# Altium footprint library BasicSAMD21.PcbLib: 20 footprints (part 1 of 2)
Each footprint in its own frame and in the unit in brackets; x right, y up, seen from the top. Pads: shape width x height; smd on the part's side, far side on the other; paste and mask are expansions set on the pad; w line width, h text height; cw(c..) or ccw(c..) is an arc to the next point about the centre after c.
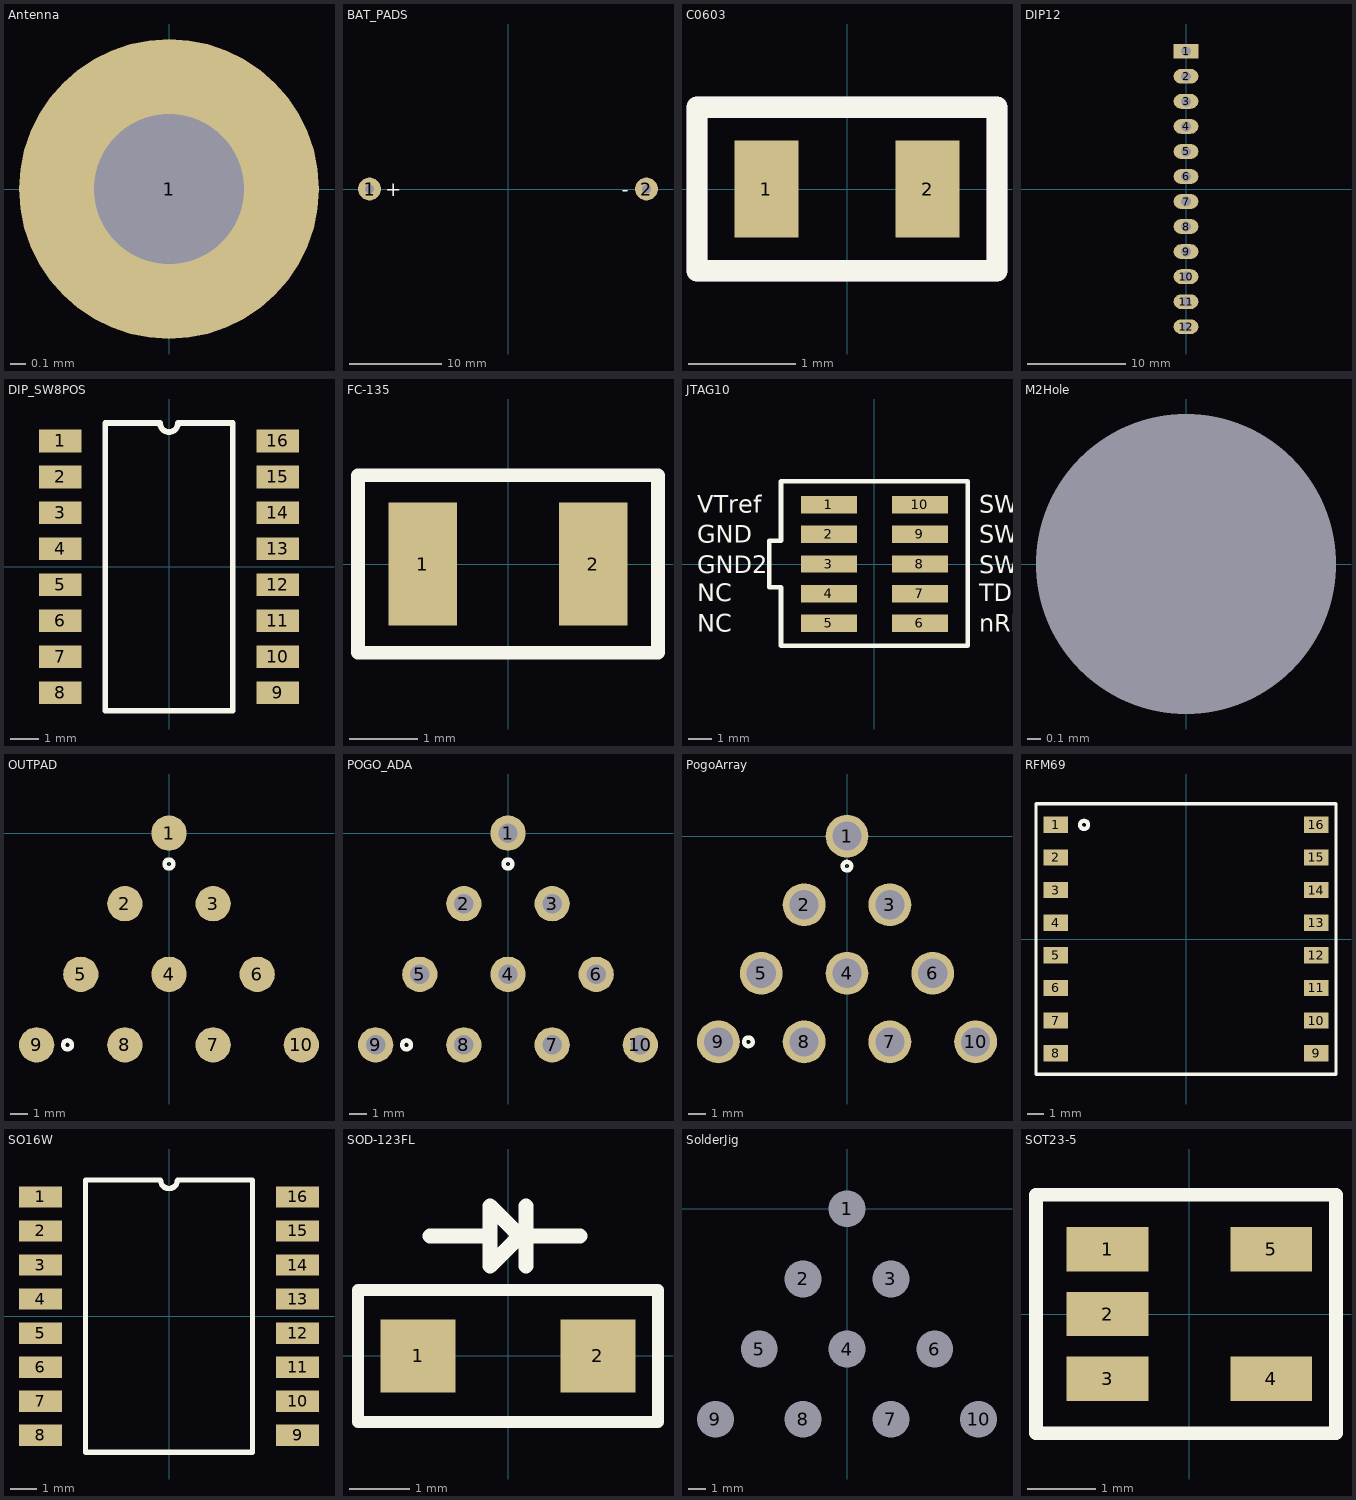
[diagram p0: the footprints below, top view; thin cyan lines are the x and y axes]

## Antenna [mm]
pads (1):
  round 2 hole 1: 1(0,0)
3D body "antenna.stp": height 3.38, standoff -2.18, extent -0.4,-2.777 19.399,2.777

## BAT_PADS [mm]
pads (2):
  round 2.5 hole 1: 1(-15,0) 2(15,0)
Top Overlay:
  text "+" at -13.3,-0.8 h1.52
  text "-" at 12.3,-0.8 h1.52

## C0603 [mm]
pads (2):
  rect 0.6x0.9 smd: 1(-0.75,0) 2(0.75,0)
Top Overlay:
  lines w0.2: -1.397,-0.762 -1.397,0.762 1.397,0.762 1.397,-0.762 -1.397,-0.762
Mechanical 29:
  lines w0.2: -1.397,-0.762 -1.397,0.762 1.397,0.762 1.397,-0.762 -1.397,-0.762
  text ".Designator" at -1.2,-0.4 h0.6
3D body "R0603.step": height 0.81, standoff 0.01, extent -0.8,-0.425 0.8,0.415

## DIP12 [mm]
pads (12):
  rect 2.5x1.5 hole 1: 1(0,13.97)
  oval 2.5x1.5 hole 1: 2(0,11.43) 3(0,8.89) 4(0,6.35) 5(0,3.81) 6(0,1.27) 7(0,-1.27) 8(0,-3.81) 9(0,-6.35) 10(0,-8.89) 11(0,-11.43) 12(0,-13.97)
3D body "_ _ _C121LFBN-RC.STEP": height 8.51, standoff -3.19, extent -1.3,-15.49 1.24,15.49

## DIP_SW8POS [mm]
pads (16):
  rect 1.5x0.8 smd: 1(-3.838,4.445) 2(-3.838,3.175) 3(-3.838,1.905) 4(-3.838,0.635) 5(-3.838,-0.635) 6(-3.838,-1.905) 7(-3.838,-3.175) 8(-3.838,-4.445) 9(3.838,-4.445) 10(3.838,-3.175) 11(3.838,-1.905) 12(3.838,-0.635) 13(3.838,0.635) 14(3.838,1.905) 15(3.838,3.175) 16(3.838,4.445)
Top Overlay:
  lines w0.2: -2.253,-5.08 -2.253,5.08 -0.318,5.08 ccw(c0,5.08) 0.318,5.08 2.253,5.08 2.253,-5.08 -2.253,-5.08
3D body "19659.stp": height 1.56, standoff 0.01, extent -3.35,-5.695 3.35,5.695

## FC-135 [mm]
pads (2):
  rect 1x1.8 smd: 1(-1.25,0) 2(1.25,0)
Top Overlay:
  lines w0.2: -2.2,-1.3 2.2,-1.3 2.2,1.3 -2.2,1.3 -2.2,-1.3
Mechanical 29:
  text ".Designator" at -1.6,-0.5 h1.25
3D body "User Library-Crystal FC-135.STEP": height 0.8, standoff 0, extent -1.6,-0.75 1.6,0.75

## JTAG10 [mm]
pads (10):
  rect 2.4x0.74 smd: 1(-1.95,2.54) 2(-1.95,1.27) 3(-1.95,0) 4(-1.95,-1.27) 5(-1.95,-2.54) 6(1.95,-2.54) 7(1.95,-1.27) 8(1.95,0) 9(1.95,1.27) 10(1.95,2.54)
Top Overlay:
  lines w0.2: -4.5,-1 -4,-1 -4,-3.5 4,-3.5 4,3.54 -4,3.54 -4,1 -4.5,1 -4.5,-1
  text "VTref" at -7.6,2.2 h0.75
  text "GND" at -7.6,0.9 h0.75
  text "GND2" at -7.6,-0.4 h0.75
  text "NC" at -7.6,-1.6 h0.75
  text "NC" at -7.6,-2.9 h0.75
  text "nRESET" at 4.5,-2.9 h0.75
  text "TDI" at 4.5,-1.6 h0.75
  text "SWO" at 4.5,-0.4 h0.75
  text "SWCLK" at 4.5,0.9 h0.75
  text "SWDIO" at 4.5,2.2 h0.75
3D body "M50-3610542.STEP": height 4.69, standoff -0.81, extent -2.75,-3.2 2.75,3.15

## M2Hole [mil]
pads (1):
  round 60 hole 86.61 unplated: ""(0,0)
3D body "91290A015_BLACK-OXIDE CLASS 12.9 SOCKET HEAD CAP SCREW.STEP": height 79.24, standoff -314.46, extent -74.8,-74.8 74.81,74.8

## OUTPAD [mm]
pads (10):
  round 2 smd: 1(0,0) 2(-2.5,-4) 3(2.5,-4) 4(0,-8) 5(-5,-8) 6(5,-8) 7(2.5,-12) 8(-2.5,-12) 9(-7.5,-12) 10(7.5,-12)
Top Overlay:
  circle w0.254: c-5.75,-12 r0.25
  circle w0.254: c0,-1.75 r0.25
3D body "studs.stp": height 2.01, standoff 0.01, extent 6.502,-13 8.498,-11.008
3D body "studs.stp": height 2.01, standoff 0.01, extent 1.502,-13 3.498,-11.008
3D body "studs.stp": height 2.01, standoff 0.01, extent -3.498,-13 -1.502,-11.008
3D body "studs.stp": height 2.01, standoff 0.01, extent -8.498,-13 -6.502,-11.008
3D body "studs.stp": height 2.01, standoff 0.01, extent 4.002,-9 5.998,-7.008
3D body "studs.stp": height 2.01, standoff 0.01, extent -0.998,-9 0.998,-7.008
3D body "studs.stp": height 2.01, standoff 0.01, extent -5.998,-9 -4.002,-7.008
3D body "studs.stp": height 2.01, standoff 0.01, extent 1.502,-5 3.498,-3.008
3D body "studs.stp": height 2.01, standoff 0.01, extent -3.498,-5 -1.502,-3.008
3D body "studs.stp": height 2.01, standoff 0.01, extent -0.998,-1 0.998,0.992

## POGO_ADA [mm]
pads (10):
  round 2 hole 1.1: 1(0,0) 2(-2.5,-4) 3(2.5,-4) 4(0,-8) 5(-5,-8) 6(5,-8) 7(2.5,-12) 8(-2.5,-12) 9(-7.5,-12) 10(7.5,-12)
Top Overlay:
  circle w0.254: c0,-1.75 r0.25
  circle w0.254: c-5.75,-12 r0.25

## PogoArray [mm]
pads (10):
  round 2.5 hole 1.7: 1(0,0) 2(-2.5,-4) 3(2.5,-4) 4(0,-8) 5(-5,-8) 6(5,-8) 7(2.5,-12) 8(-2.5,-12) 9(-7.5,-12) 10(7.5,-12)
Top Overlay:
  circle w0.254: c-5.75,-12 r0.25
  circle w0.254: c0,-1.75 r0.25

## RFM69 [mm]
pads (16):
  rect 1.5x1 smd: 1(-8,7) 2(-8,5) 3(-8,3) 4(-8,1) 5(-8,-1) 6(-8,-3) 7(-8,-5) 8(-8,-7) 9(8,-7) 10(8,-5) 11(8,-3) 12(8,-1) 13(8,1) 14(8,3) 15(8,5) 16(8,7)
Top Overlay:
  circle w0.254: c-6.25,7 r0.25
  lines w0.2: -9.2,-8.3 -9.2,8.3 9.2,8.3 9.2,-8.3 -9.2,-8.3
3D body "RFM95W-915S2--3DModel-STEP-56544.STEP": height 1.81, standoff 0.01, extent -8,-8 8,8

## SO16W [mm]
pads (16):
  rect 1.6x0.8 smd: 1(-4.8,4.445) 2(-4.8,3.175) 3(-4.8,1.905) 4(-4.8,0.635) 5(-4.8,-0.635) 6(-4.8,-1.905) 7(-4.8,-3.175) 8(-4.8,-4.445) 9(4.8,-4.445) 10(4.8,-3.175) 11(4.8,-1.905) 12(4.8,-0.635) 13(4.8,0.635) 14(4.8,1.905) 15(4.8,3.175) 16(4.8,4.445)
Top Overlay:
  lines w0.2: -3.115,-5.08 -3.115,5.08 -0.318,5.08 ccw(c0,5.08) 0.318,5.08 3.115,5.08 3.115,-5.08 -3.115,-5.08
3D body "21-0042B_16.stp": height 2.64, standoff 0, extent -5.321,-5.245 5.321,5.245

## SOD-123FL [mm]
pads (2):
  rect 1.25x1.22 smd: 1(-1.5,0) 2(1.5,0)
Top Overlay:
  lines w0.2: -2.5,-1.1 2.5,-1.1 2.5,1.1 -2.5,1.1 -2.5,-1.1
  lines w0.254: -1.3,2 -0.3,2 ; 0.3,1.5 0.3,2.5 ; 1.2,2 0.2,2 ; 0.2,2 -0.3,1.5 -0.3,2.5 0.2,2
3D body "User Library-SOD-123FL CASE 498.step": height 0.95, standoff 0, extent -1.8,-0.825 1.8,0.825

## SolderJig [mm]
pads (10):
  round 2 hole 2.1 unplated: 1(0,0) 2(-2.5,-4) 3(2.5,-4) 4(0,-8) 5(-5,-8) 6(5,-8) 7(2.5,-12) 8(-2.5,-12) 9(-7.5,-12) 10(7.5,-12)

## SOT23-5 [mm]
pads (5):
  rect 1.2x0.65 smd: 1(-1.2,0.95) 2(-1.2,0) 3(-1.2,-0.95) 4(1.2,-0.95) 5(1.2,0.95)
Top Overlay:
  lines w0.2: -2.25,-1.75 2.15,-1.75 2.15,1.75 -2.25,1.75 -2.25,-1.75
3D body "SOT-23-5_MC.stp": height 1.45, standoff 0, extent -1.6,-1.549 1.6,1.549